# Altium schematic symbol library schLib.SchLib: 28 symbols
Pins are listed as number, name and electrical type; pins without a type are passive.

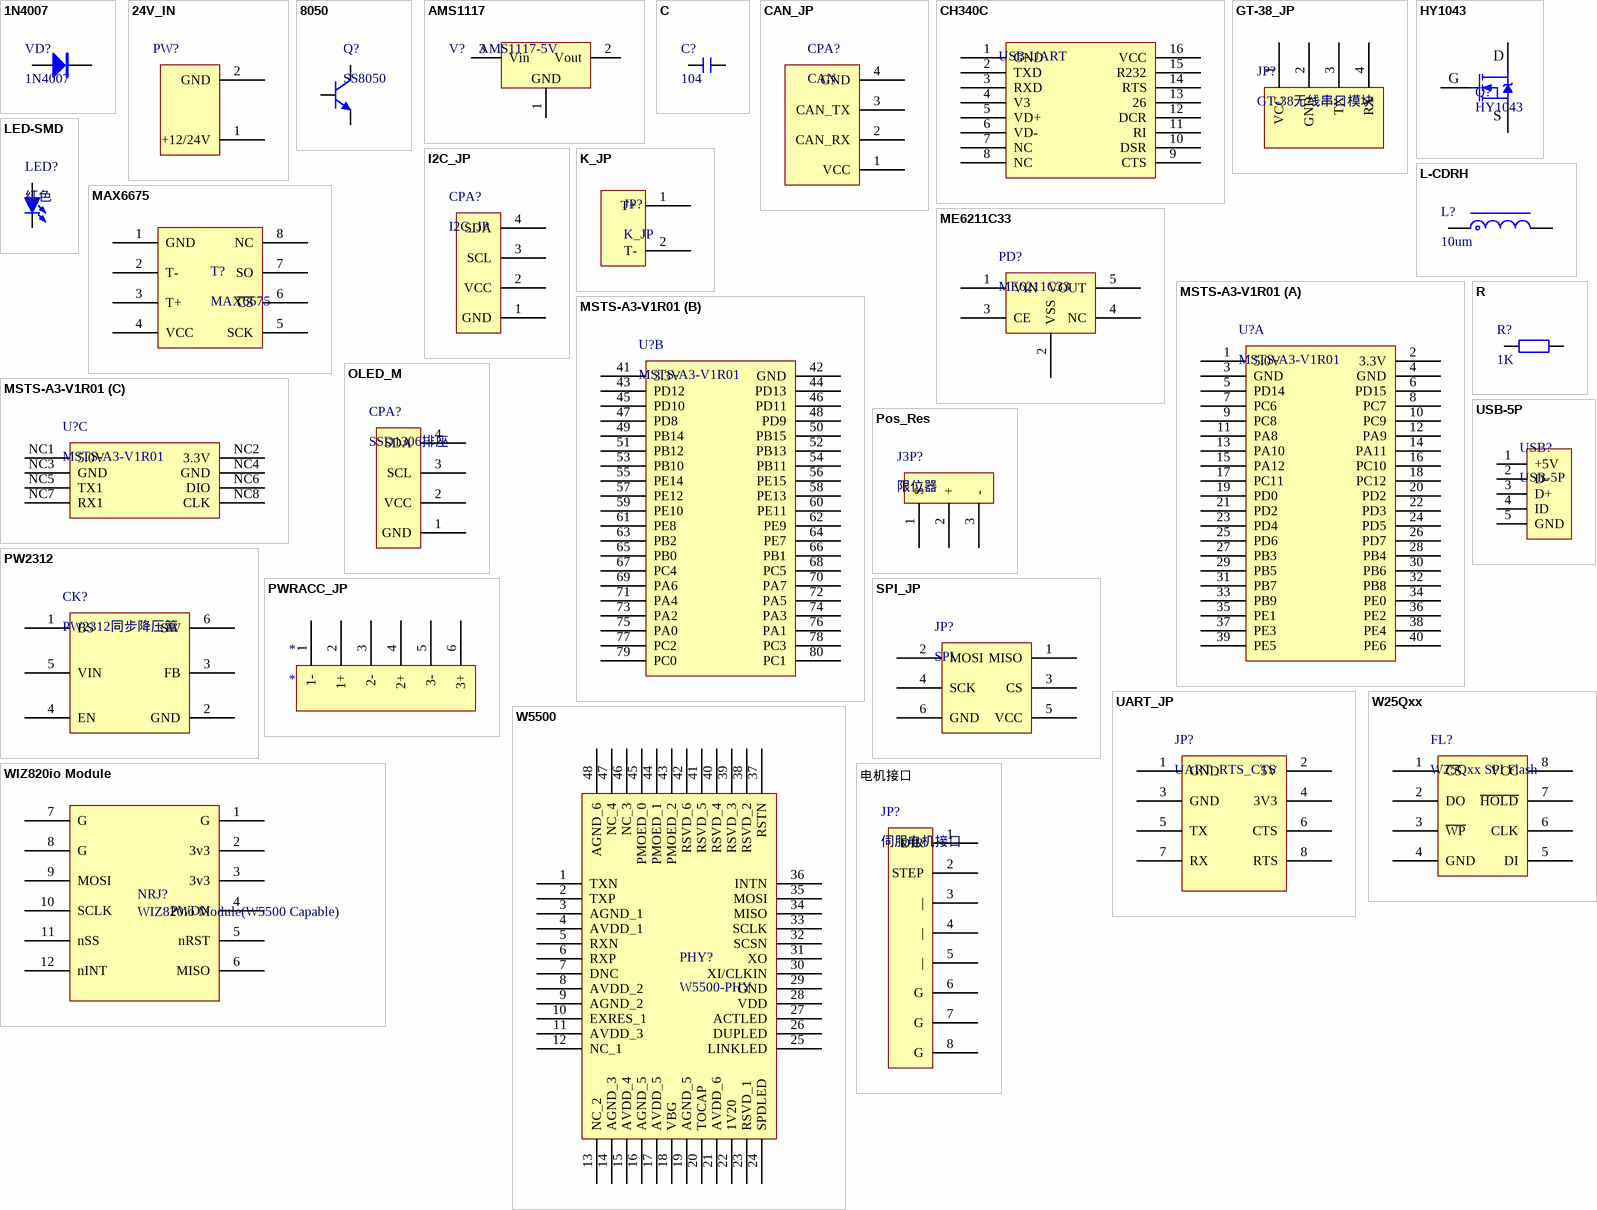
[diagram p0: symbols 1N4007 to 电机接口]

## 1N4007
designator VD?
整流二极管; 版权归属: 源创客; BOM名称: 整流二极管; 学习资源: www.ooocke.com
footprint DO-41 (2.6*9.1mm(直径，脚距）)
footprint SOD-123 (2.7x1.6X1.1mm（长宽高，不包括引脚）)
footprint SMA (4.5x2.6*2.2mm（长宽高，不包括引脚）)
footprint DO-41V (2.6*3.5mm(直径，脚距）)
pins: 1 A, 2 K

## 24V_IN
designator PW?, comment 24V直流接口  (value not drawn)
12/24V接口
footprint KF301-2P (可拼接端子/6A)
pins: 1 +12/24V, 2 GND

## 8050
designator Q?, comment SS8050
高频放大三极管-NPN型; BOM名称: 高频放大-NPN型; 版权归属: 源创客; 属性: 40V 1.5A 1W 100MHZ; 学习资源: www.ooocke.com
footprint SOT23-3N (3x1.3x1mm(长宽高))
pins: 1 B, 2 E, 3 C

## AMS1117
designator V?, comment AMS1117-5V
三端稳压芯片; BOM名称: 稳压芯片; 版权归属: 源创客; 学习资源: www.ooocke.com
footprint SOT223_N (6.4x7x1.6mm(长宽高))
pins: 1 GND, 2 Vout, 3 Vin

## C
designator C?, comment 104
无极性贴片电容; 版权归属: 源创客; BOM名称: 无极性贴片电容; 学习资源: www.ooocke.com
footprint C 0402_M (无极性贴片电容)
footprint C 0805 (无极性贴片电容)
footprint C 1206 (无极性贴片电容)
footprint C 0603 (无极性贴片电容)
pins: 1, 2

## CAN_JP
designator CPA?, comment CAN
CAN总线通讯插座
footprint XH2.54-LI-4P (接插件，4P)
pins: 1 VCC, 2 CAN_RX, 3 CAN_TX, 4 GND

## CH340C
designator N?, comment USB-UART
USB转串口芯片
footprint SOP16_M (10.3*6.2*1.8mm（长宽高）)
pins: 1 GND, 2 TXD, 3 RXD, 4 V3, 5 VD+, 6 VD-, 7 NC, 8 NC, 9 CTS, 10 DSR, 11 RI, 12 DCR, 13 26, 14 RTS, 15 R232, 16 VCC

## GT-38_JP
designator JP?, comment GT-38无线串口模块
GT-38无线串口模块，工作于半双工模式
footprint HDR2.54-M-LI-4P (排母，4脚)
pins: 1 VCC, 2 GND, 3 TX, 4 RX

## HY1043
designator Q?
功率型N沟场效应管; 版权归属: 源创客; BOM名称: 功率型N沟场效应管; 学习资源: www.ooocke.com
footprint TO252 (252晶体管)
pins: 1 G, 2 D, 3 S

## I2C_JP
designator CPA?
I2C接口，也可作ssd1306接口
footprint HDR2.54-M-LI-4P (排母，4脚)
pins: 1 GND, 2 VCC, 3 SCL, 4 SDA

## K_JP
designator JP?
K型半导体插座
footprint XH2.54-LI-2P (接插件，2P)
pins: 1 T+, 2 T-

## L-CDRH
designator L?, comment 10um
功率屏蔽电感; 版权归属: 源创客; BOM名称: 功率屏蔽电感; 学习资源: www.ooocke.com
footprint CDRH74 (7.3*7.3*4.5mm（长宽高）)
pins: 1, 2

## LED-SMD
designator LED?, comment 红色
贴片LED; 版权归属: 源创客; BOM名称: 贴片LED; 学习资源: www.ooocke.com
footprint LED 0805G (绿色0805LED)
footprint LED 0805R (红色0805LED)
footprint LED 0805B (蓝色0805LED)
footprint LED 0805Y (黄色0805LED)
footprint LED 0805W (白色0805LED)
pins: 1 A, 2 K

## MAX6675
designator T?
K型热电偶测温芯片(SPI)
footprint SOP8_M (5*6*1.8mm（长宽高）)
pins: 1 GND, 2 T-, 3 T+, 4 VCC, 5 SCK, 6 ~{CS}, 7 SO, 8 NC

## ME6211C33
designator PD?
ME6211C33 3.3v线性LDO
footprint SOT23-5N (3x1.6x1.1mm(长宽高))
pins: 1 VIN, 2 VSS, 3 CE, 4 NC, 5 VOUT

## MSTS-A3-V1R01
designator U?
footprint MSTS-A3 (矩阵科技 STM32F103开发板)
part A pins: 1 5.0V, 2 3.3V, 3 GND, 4 GND, 5 PD14, 6 PD15, 7 PC6, 8 PC7, 9 PC8, 10 PC9, 11 PA8, 12 PA9, 13 PA10, 14 PA11, 15 PA12, 16 PC10, 17 PC11, 18 PC12, 19 PD0, 20 PD2, 21 PD2, 22 PD3, 23 PD4, 24 PD5, 25 PD6, 26 PD7, 27 PB3, 28 PB4, 29 PB5, 30 PB6, 31 PB7, 32 PB8, 33 PB9, 34 PE0, 35 PE1, 36 PE2, 37 PE3, 38 PE4, 39 PE5, 40 PE6
part B pins: 41 3.3V, 42 GND, 43 PD12, 44 PD13, 45 PD10, 46 PD11, 47 PD8, 48 PD9, 49 PB14, 50 PB15, 51 PB12, 52 PB13, 53 PB10, 54 PB11, 55 PE14, 56 PE15, 57 PE12, 58 PE13, 59 PE10, 60 PE11, 61 PE8, 62 PE9, 63 PB2, 64 PE7, 65 PB0, 66 PB1, 67 PC4, 68 PC5, 69 PA6, 70 PA7, 71 PA4, 72 PA5, 73 PA2, 74 PA3, 75 PA0, 76 PA1, 77 PC2, 78 PC3, 79 PC0, 80 PC1
part C pins: NC1 5.0V, NC2 3.3V, NC3 GND, NC4 GND, NC5 TX1, NC6 DIO, NC7 RX1, NC8 CLK

## OLED_M
designator CPA?, comment SSD1306排座
footprint HDR2.54-M-LI-4P (排母，4脚)
pins: 1 GND, 2 VCC, 3 SCL, 4 SDA

## Pos_Res
designator J3P?, comment 限位器
限位开关插座
footprint XH2.54-LI-3P (接插件，3P)
pins: 1 S, 2 +, 3 -

## PW2312
designator CK?, comment PW2312同步降压管
footprint SOT23-6N (3x1.6x1.1mm(长宽高))
pins: 1 BS, 2 GND, 3 FB, 4 EN, 5 VIN, 6 SW

## PWRACC_JP
designator *
footprint KF128-5.08-6P (螺钉式接线端子，脚距5.08mm)
footprint KF301-5.0-6P (可拼接端子/6A)
pins: 1 1-, 2 1+, 3 2-, 4 2+, 5 3-, 6 3+

## R
designator R?, comment 1K
贴片电阻; 版权归属: 源创客; BOM名称: 贴片电阻; 学习资源: www.ooocke.com
footprint R 0402 (1/16W贴片电阻)
footprint R 0805 (1/8W贴片电阻)
footprint R 1206 (1/4W贴片电阻)
footprint R 0603 (1/10W贴片电阻)
pins: 1, 2

## SPI_JP
designator JP?, comment SPI
SPI接口
footprint HDR2.54-M-LS-2x3P (脚距：2.54mm，贴片双排母)
pins: 1 MISO, 2 MOSI, 3 CS, 4 SCK, 5 VCC, 6 GND

## UART_JP
designator JP?, comment UART_RTS_CTS
uart with rts cts
footprint HDR2.54-LI-2x4P (双排排针，4x2脚)
pins: 1 GND, 2 5V, 3 GND, 4 3V3, 5 TX, 6 CTS, 7 RX, 8 RTS

## USB-5P
designator USB?
微型USB母座; 版权归属: 源创客; BOM名称: 微型USB母座; 学习资源: www.ooocke.com
footprint USB-MICRO_D (micro型USB ，5.9*8.2*2.5mm)
footprint USB-MICRO_A (micro型USB ，5.9*8.2*2.5mm)
pins: 1 +5V, 2 D-, 3 D+, 4 ID, 5 GND

## W25Qxx
designator FL?, comment W25Qxx SPI Flash
W25Qxx SPI Flash,容量小于128Mbit
footprint SOP8_N (5*6*1.8mm（长宽高）)
footprint SOP8W_N (5.3*8.3*1.8mm（长宽高）)
pins: 1 ~{CS}, 2 DO, 3 ~{WP}, 4 GND, 5 DI, 6 CLK, 7 ~{HOLD}, 8 VCC

## W5500
designator PHY?, comment W5500-PHY
W5500
footprint LQFP48 7X7_N (48脚，体宽7x7mm，脚距0.5mm)
pins: 1 TXN, 2 TXP, 3 AGND_1, 4 AVDD_1, 5 RXN, 6 RXP, 7 DNC, 8 AVDD_2, 9 AGND_2, 10 EXRES_1, 11 AVDD_3, 12 NC_1, 13 NC_2, 14 AGND_3, 15 AVDD_4, 16 AGND_5, 17 AVDD_5, 18 VBG, 19 AGND_5, 20 TOCAP, 21 AVDD_6, 22 1V20, 23 RSVD_1, 24 SPDLED, 25 LINKLED, 26 DUPLED, 27 ACTLED, 28 VDD, 29 GND, 30 XI/CLKIN, 31 XO, 32 SCSN, 33 SCLK, 34 MISO, 35 MOSI, 36 INTN, 37 RSTN, 38 RSVD_2, 39 RSVD_3, 40 RSVD_4, 41 RSVD_5, 42 RSVD_6, 43 PMOED_2, 44 PMOED_1, 45 PMOED_0, 46 NC_3, 47 NC_4, 48 AGND_6

## WIZ820io Module
designator NRJ?, comment WIZ820io Module(W5500 Capable)
footprint WIZ820io (2 *  6pin排母)
pins: 1 G, 2 3v3, 3 3v3, 4 PWDN, 5 nRST, 6 MISO, 7 G, 8 G, 9 MOSI, 10 SCLK, 11 nSS, 12 nINT

## 电机接口
designator JP?, comment 伺服电机接口
伺服电机接口-定制化8P
footprint XH2.54-LI-8P (接插件，8P)
pins: 1 DIR, 2 STEP, 3 |, 4 |, 5 |, 6 G, 7 G, 8 G